# Altium footprint library PcbLib2.PcbLib: 1 footprints
Each footprint in its own frame and in the unit in brackets; x right, y up, seen from the top. Pads: shape width x height; smd on the part's side, far side on the other; paste and mask are expansions set on the pad; w line width, h text height; cw(c..) or ccw(c..) is an arc to the next point about the centre after c.
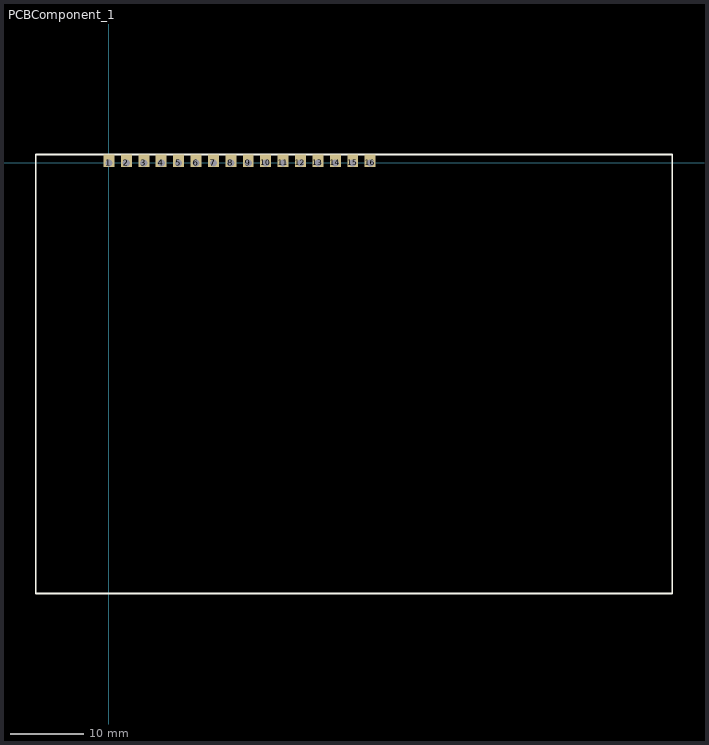
[diagram p0: the footprint, top view; thin cyan lines are the x and y axes]

## PCBComponent_1 [mm]
pads (16):
  rect 1.5x1.7 hole 1 copper offset 0,0.3: 1(0,0) 2(2.381,0) 3(4.762,0) 4(7.143,0) 5(9.519,0) 6(11.899,0) 7(14.28,0) 8(16.661,0) 9(19.042,0) 10(21.423,0) 11(23.804,0) 12(26.185,0) 13(28.566,0) 14(30.947,0) 15(33.328,0) 16(35.709,0)
Top Overlay:
  lines w0.254: -10,-58.857 77,-58.857 77,1.143 0,1.143 -10,1.143 -10,-58.857